# Altium schematic symbol library SCH - POWER - SWITCHMODE - 3PEAK TPP36106.SchLib: 1 symbol
Pins are listed as number, name and electrical type; pins without a type are passive.

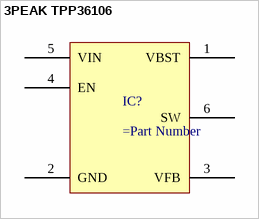
[diagram p0: symbol 3PEAK TPP36106]

## 3PEAK TPP36106
designator IC?
pins: 1 VBST, 2 GND, 3 VFB, 4 EN, 5 VIN, 6 SW